# Altium footprint library PCB - POWER - PDSE1S24S12MTR.PcbLib: 1 footprints
Each footprint in its own frame and in the unit in brackets; x right, y up, seen from the top. Pads: shape width x height; smd on the part's side, far side on the other; paste and mask are expansions set on the pad; w line width, h text height; cw(c..) or ccw(c..) is an arc to the next point about the centre after c.
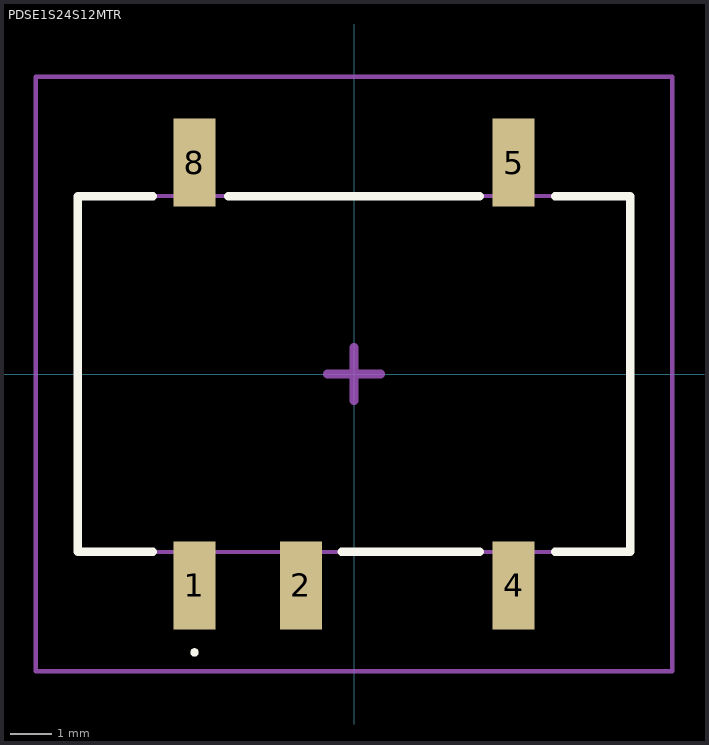
[diagram p0: the footprint, top view; thin cyan lines are the x and y axes]

## PDSE1S24S12MTR [mm]
pads (5):
  rect 1x2.1 smd: 1(-3.81,-5.05) 2(-1.27,-5.05) 4(3.81,-5.05) 5(3.81,5.05) 8(-3.81,5.05)
Top Overlay:
  lines w0.1: -3.81,-6.7 cw(c-3.81,-6.65) -3.81,-6.6 cw(c-3.81,-6.65) -3.81,-6.7
  lines w0.2: -4.8,-4.25 -6.6,-4.25 -6.6,4.25 -4.8,4.25 ; -3,4.25 3,4.25 ; -0.3,-4.25 3,-4.25 ; 4.8,-4.25 6.6,-4.25 6.6,4.25 4.8,4.25
Top Assembly:
  lines w0.1: -6.6,-4.25 -6.6,4.25 6.6,4.25 6.6,-4.25 -6.6,-4.25
Top Courtyard:
  lines w0.1: -7.6,-7.1 -7.6,7.1 7.6,7.1 7.6,-7.1 -7.6,-7.1
Top Designator:
  text ".Designator" at -4.877,7.527 h1.02
Top Component Center:
  lines w0.203: -0.635,0 0,0 ; 0,-0.635 0,0 ; 0,0.635 0,0 ; 0.635,0 0,0
3D body "PDSE1-S24-S12-M-TR.stp": height 7.6, standoff 0, extent -6.6,-6 6.6,6